# EAGLE library part 750311269 (library Wurth Electronics Midcom Inc V1-0)
Package Style: Standard PQ3230 90W THT Mounting: THT Pins: 12 pins Bobbin: 070-4796 Windings Primary: 85-265VAC 70kHz Aux: 28V Secondary: 28V, 3.2A Best pinouts for production vary per application. Please contact Wurth Electronics Midcom, Inc. for assistance with your custom design. Datasheet: 750311269 <http://www.we-online.com/web/en/index.php/show/media/passive_components_-_custom_magnetics/pdf_doc_files/spec_sheets/7503/750311269.pdf> Website: Wurth Electronics Midcom <http://www.we-online.com/midcom> Contact us Wurth Electronics Midcom, Inc. 121 Airport Dr. Watertown, SD 57201 Phone: (605) 886-4385 Fax: (605) 886-4486 E-Mail: midcom@we-online.com
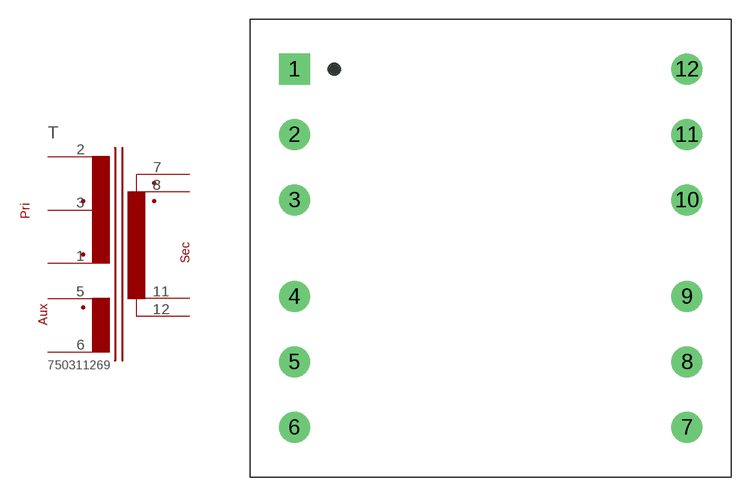
[diagram p61: symbol with the pads of 01STANDARD_PQ3230_THT_V_12PIN; footprint 01STANDARD_PQ3230_THT_V_12PIN]

Designator prefix T

## 750311269  [01STANDARD_PQ3230_THT_V_12PIN]
1  3  pas
2  1  pas
3  2  pas
5  4  pas
6  5  pas
7  6  pas
8  9  pas
11  10  pas
12  7  pas

## Footprint 01STANDARD_PQ3230_THT_V_12PIN (pad centres in mm)
Package Style: Speedy PQ3230 Mounting: THT Pins: 12 pins Bobbin: 070-5621
drill 1.6 square: 1 -15.24,13.906
drill 1.6 round: 2 -15.24,8.826; 3 -15.24,3.747; 4 -15.24,-3.747; 5 -15.24,-8.826; 6 -15.24,-13.906; 7 15.24,-13.906; 8 15.24,-8.826; 9 15.24,-3.747; 10 15.24,3.747; 11 15.24,8.826; 12 15.24,13.906